# Altium schematic symbol library SMD Passive.SchLib: 216 symbols (part 1 of 4)
Pins are listed as number, name and electrical type; pins without a type are passive.

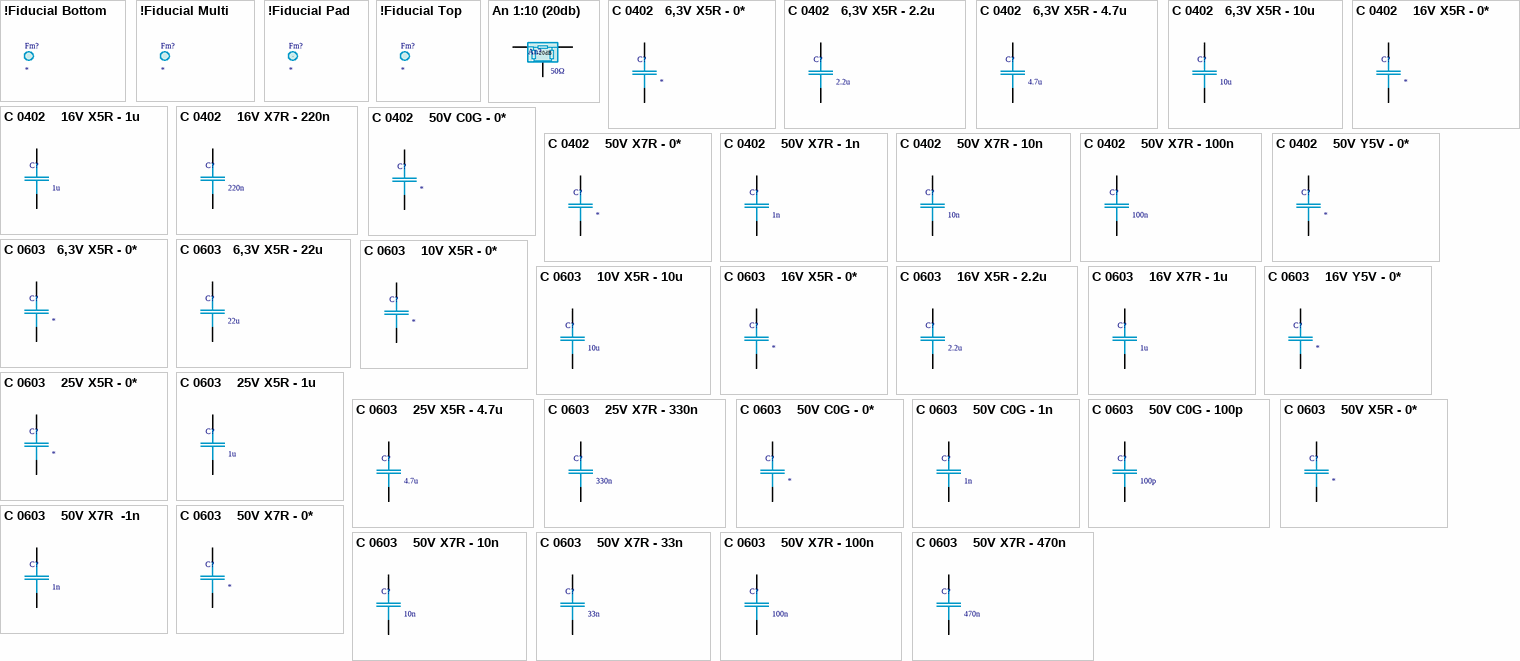
[diagram p0: symbols !Fiducial Bottom to C 0603    50V X7R - 470n]

## !Fiducial Bottom
designator Fm?  (no BOM)
Fiducial Top; Value: Bottom; Package: Fiducial; Published: 07.04.2019; Mount Type: SMT; Publisher: Hefest; Technology: Pcb; TYPE: Fiducial
footprint Fiducial-Bottom

## !Fiducial Multi
designator Fm?  (no BOM)
Fiducial Multi; TYPE: Fiducial; Package: Fiducial; Published: 07.04.2019; Mount Type: SMT; Publisher: Hefest; Technology: Pcb; Value: Multi
footprint Fiducial-Multi

## !Fiducial Pad
designator Fm?  (no BOM)
Fiducial Pad; Value: Top; Package: Fiducial; Published: 07.04.2019; Mount Type: SMT; Publisher: Hefest; Technology: Pcb; TYPE: Fiducial
footprint Fiducial-Top
footprint Fiducial-Bottom
pins: 0

## !Fiducial Top
designator Fm?  (no BOM)
Fiducial Top; Package: Fiducial; Published: 07.04.2019; Mount Type: SMT; Publisher: Hefest; Technology: Pcb; Value: Top; TYPE: Fiducial
footprint Fiducial-Top

## An 1:10 (20db)
designator An?, comment R: 50Ω  (hidden comment: D10AA20Z4)
SMD 10W    -20dB DC-3GHz; VSWR: <1.25:1; Tolerance %: ±0.25dB; Package-mm: 5x2.5mm; FREQ min: DC; FREQ max: 3GHz; Part Number: D10AA20Z4; Mount Type: SMT; Publisher: Hefest; Manufacturer: *; Manufacturer Alternate: *; Published: 07.04.2019; Supplier 1: Mouser; Supplier Part Number 1: 620-D10AA20Z4; RoHS: Y; Technology: Chip; ATTENUATION: -20dB; Package: D10AAxxZ4; ComponentLink1Description: Datasheet Link; ComponentLink1URL: https://cdn.anaren.com/product-documents/WirelessResistive/AttenuatorsSMD/D10AAXXZ4/D10AAXXZ4_DataSheet(Rev_D).pdf; Temperature Range: -55°C ~ +125°C; Price: 10.47; Part Number Alternate: *; TYPE: Attenuator; Value Code: *; Power: 10W; Value: D10AA20Z4
footprint R Att D10AAxxZ4
signal-integrity model Resistor (Model Description)
pins: 1, 2, 3 G
1 alternate drawing of the same symbol

## C 0402   6,3V X5R - 0*
designator C?
SMD 0402    6.3V X5R 10%; Manufacturer: Samsung; TYPE: Capacitors; Package-mm: 1005; Part Number: *; Mount Type: SMT; Publisher: Hefest; Manufacturer Alternate: *; Published: 07.04.2019; Supplier 1: Comet; Supplier Part Number 1: *; RoHS: Y; Technology: Ceramic  MLCC; Package: 0402; VDC: 6.3V; TempCo: X5R; Tolerance %: ±10%; VAC: *; ESR Ohm: *; ComponentLink1Description: Datasheet Link; ComponentLink1URL: https://store.comet.bg/download-file.php?id=11; Temperature Range: -55°C ~ +85°C; Price: *; Part Number Alternate: *; Value: *
footprint C 0402(1005)x0.5
simulation model Capacitor (Model Description)
signal-integrity model Capacitor (Model Description)
pins: 1, 2
1 alternate drawing of the same symbol

## C 0402   6,3V X5R - 2.2u
designator C?, comment 2.2u
SMD 0402    6.3V X5R 20%; Part Number: CL05A225MQ5NNNC; Manufacturer: Samsung; TYPE: Capacitors; Package-mm: 1005; Mount Type: SMT; Publisher: Hefest; Published: 07.04.2019; Supplier 1: Comet; Supplier Part Number 1: C0402 2.2uF 6.3V X5R SAMSUNG; RoHS: Y; Technology: Ceramic  MLCC; Package: 0402; VDC: 6.3V; TempCo: X5R; Tolerance %: ±20%; VAC: *; ComponentLink1Description: Datasheet Link; ComponentLink1URL: https://store.comet.bg/download-file.php?id=11; ComponentLink3Description: Characteristics data; ComponentLink3URL: https://store.comet.bg/download-file.php?id=8557; Temperature Range: -55°C ~ +85°C; Price: 0.038; Part Number Alternate: *; Manufacturer Alternate: *; ESR Ohm: *; Value: 2.2u
footprint C 0402(1005)x0.5
simulation model Capacitor (Model Description)
signal-integrity model Capacitor (Model Description)
pins: 1, 2
1 alternate drawing of the same symbol

## C 0402   6,3V X5R - 4.7u
designator C?, comment 4.7u
SMD 0402    6.3V X5R 10%; Part Number: CL05A475MQ5NNNC; Manufacturer: Samsung; TYPE: Capacitors; Tolerance %: ±20%; Package-mm: 1005; Mount Type: SMT; Publisher: Hefest; Manufacturer Alternate: *; Part Number Alternate: *; Published: 07.04.2019; Supplier 1: Comet; Supplier 2: *; Supplier 3: *; Supplier Part Number 1: C0402 4.7uF 6.3V X5R SAMSUNG; Supplier Part Number 2: *; Supplier Part Number 3: *; RoHS: Y; Technology: Ceramic  MLCC; Value 1: *; Value 2: *; Package: 0402; VDC: 6.3V; TempCo: X5R; VAC: *; ESR Ohm: *; ComponentLink1Description: Datasheet Link; ComponentLink1URL: https://store.comet.bg/download-file.php?id=11; Temperature Range: -55°C ~ +85°C; Price: 0.150; Value: 4.7u
footprint C 0402(1005)x0.5
simulation model Capacitor (Model Description)
signal-integrity model Capacitor (Model Description)
pins: 1, 2
1 alternate drawing of the same symbol

## C 0402   6,3V X5R - 10u
designator C?, comment 10u
SMD 0402    6.3V X5R 20%; Part Number: CL05A106MQ5NUNC; Manufacturer: Samsung; TYPE: Capacitors; Package-mm: 1005; Mount Type: SMT; Publisher: Hefest; Manufacturer Alternate: *; Part Number Alternate: *; Published: 07.04.2019; Supplier 1: Comet; Supplier Part Number 1: C0402 10uF 6.3V X5R SAMSUN; RoHS: Y; Technology: Ceramic  MLCC; Package: 0402; VDC: 6.3V; TempCo: X5R; Tolerance %: ±20%; VAC: *; ESR Ohm: *; ComponentLink1Description: Datasheet Link; ComponentLink1URL: https://store.comet.bg/download-file.php?id=11; Temperature Range: -55°C ~ +85°C; Price: 0.140; Value: 10u
footprint C 0402(1005)x0.5
simulation model Capacitor (Model Description)
signal-integrity model Capacitor (Model Description)
pins: 1, 2
1 alternate drawing of the same symbol

## C 0402    16V X5R - 0*
designator C?
SMD 0402     16V X5R 10%; Manufacturer: Samsung; TYPE: Capacitors; Tolerance %: ±20%; Package-mm: 1005; Part Number: *; Mount Type: SMT; Publisher: Hefest; Manufacturer Alternate: *; Part Number Alternate: *; Published: 07.04.2019; Supplier 1: Comet; Supplier Part Number 1: *; RoHS: Y; Technology: Ceramic  MLCC; Package: 0402; VDC: 16V; TempCo: X5R; VAC: *; ESR Ohm: *; ComponentLink1Description: Datasheet Link; ComponentLink1URL: https://store.comet.bg/download-file.php?id=11; Temperature Range: -55°C ~ +85°C; Price: *; Value: *
footprint C 0402(1005)x0.5
simulation model Capacitor (Model Description)
signal-integrity model Capacitor (Model Description)
pins: 1, 2
1 alternate drawing of the same symbol

## C 0402    16V X5R - 1u
designator C?, comment 1u
SMD 0402     16V X5R 10%; Part Number: CL05A105KO5NNNC; Manufacturer: Samsung; TYPE: Capacitors; Package-mm: 1005; Mount Type: SMT; Publisher: Hefest; Manufacturer Alternate: *; Part Number Alternate: *; Published: 07.04.2019; Supplier 1: Comet; Supplier Part Number 1: C0402 1.0uF 16V X5R SAMSUNG; RoHS: Y; Technology: Ceramic  MLCC; Package: 0402; VDC: 16V; TempCo: X5R; Tolerance %: ±10%; VAC: *; ESR Ohm: *; ComponentLink1Description: Datasheet Link; ComponentLink1URL: https://store.comet.bg/download-file.php?id=11; Temperature Range: -55°C ~ +85°C; Price: 0.038; Value: 1u
footprint C 0402(1005)x0.5
simulation model Capacitor (Model Description)
signal-integrity model Capacitor (Model Description)
pins: 1, 2
1 alternate drawing of the same symbol

## C 0402    16V X7R - 220n
designator C?, comment 220n
SMD 0402     16V X7R 10%; Part Number: CL05B224KO5NNNC; Manufacturer: Samsung; TYPE: Capacitors; Package-mm: 1005; Mount Type: SMT; Publisher: Hefest; Manufacturer Alternate: *; Part Number Alternate: *; Published: 07.04.2019; Supplier 1: Comet; Supplier Part Number 1: C0402 220nF 16V X7R SAMSUNG; RoHS: Y; Technology: Ceramic  MLCC; Package: 0402; VDC: 16V; TempCo: X7R; Tolerance %: ±10%; VAC: *; ESR Ohm: *; ComponentLink1Description: Datasheet Link; ComponentLink1URL: https://store.comet.bg/download-file.php?id=11; Temperature Range: -55°C ~ +125°C; Price: 0.020; Value: 220n
footprint C 0402(1005)x0.5
simulation model Capacitor (Model Description)
signal-integrity model Capacitor (Model Description)
pins: 1, 2
1 alternate drawing of the same symbol

## C 0402    50V C0G - 0*
designator C?
SMD 0402     50V C0G   5%; Manufacturer: Samsung; TYPE: Capacitors; Package-mm: 1005; Part Number: *; Mount Type: SMT; Publisher: Hefest; Manufacturer Alternate: *; Part Number Alternate: *; Published: 07.04.2019; Supplier 1: Comet; Supplier Part Number 1: *; RoHS: Y; Technology: Ceramic  MLCC; Package: 0402; VDC: 50V; TempCo: C0G; Tolerance %: ±5%; VAC: *; ESR Ohm: *; ComponentLink1Description: Datasheet Link; ComponentLink1URL: https://store.comet.bg/download-file.php?id=11; Temperature Range: -55°C ~ +125°C; Price: *; Value: *
footprint C 0402(1005)x0.5
simulation model Capacitor (Model Description)
signal-integrity model Capacitor (Model Description)
pins: 1, 2
1 alternate drawing of the same symbol

## C 0402    50V X7R - 0*
designator C?
SMD 0402     50V X7R 10%; Manufacturer: Samsung; TYPE: Capacitors; Package-mm: 1005; Part Number: *; Mount Type: SMT; Publisher: Hefest; Manufacturer Alternate: *; Part Number Alternate: *; Published: 07.04.2019; Supplier 1: Comet; Supplier Part Number 1: *; RoHS: Y; Technology: Ceramic  MLCC; Package: 0402; VDC: 50V; TempCo: X7R; Tolerance %: ±10%; VAC: *; ESR Ohm: *; ComponentLink1Description: Datasheet Link; ComponentLink1URL: https://store.comet.bg/download-file.php?id=11; Temperature Range: -55°C ~ +125°C; Price: *; Value: *
footprint C 0402(1005)x0.5
simulation model Capacitor (Model Description)
signal-integrity model Capacitor (Model Description)
pins: 1, 2
1 alternate drawing of the same symbol

## C 0402    50V X7R - 1n
designator C?, comment 1n
SMD 0402     50V X7R 10%; Part Number: CL05B102KB5NNNC; Manufacturer: Samsung; TYPE: Capacitors; Package-mm: 1005; Mount Type: SMT; Publisher: Hefest; Manufacturer Alternate: *; Part Number Alternate: *; Published: 07.04.2019; Supplier 1: Comet; Supplier Part Number 1: C0402 1.0nF 50V X7R SAMSUNG; RoHS: Y; Technology: Ceramic  MLCC; Package: 0402; VDC: 50V; TempCo: X7R; Tolerance %: ±10%; VAC: *; ESR Ohm: *; ComponentLink1Description: Datasheet Link; ComponentLink1URL: https://store.comet.bg/download-file.php?id=11; Temperature Range: -55°C ~ +125°C; Price: 0.015; Value: 1n
footprint C 0402(1005)x0.5
simulation model Capacitor (Model Description)
signal-integrity model Capacitor (Model Description)
pins: 1, 2
1 alternate drawing of the same symbol

## C 0402    50V X7R - 10n
designator C?, comment 10n
SMD 0402     50V X7R 10%; Part Number: CL05B103KB5NNNC; Manufacturer: Samsung; TYPE: Capacitors; Package-mm: 1005; Mount Type: SMT; Publisher: Hefest; Manufacturer Alternate: *; Part Number Alternate: *; Published: 07.04.2019; Supplier 1: Comet; Supplier Part Number 1: C0402 10nF 50V X7R SAMSUNG; RoHS: Y; Technology: Ceramic  MLCC; Package: 0402; VDC: 50V; TempCo: X7R; Tolerance %: ±10%; VAC: *; ESR Ohm: *; ComponentLink1Description: Datasheet Link; ComponentLink1URL: https://store.comet.bg/download-file.php?id=11; Temperature Range: -55°C ~ +125°C; Price: 0.037; Value: 10n
footprint C 0402(1005)x0.5
simulation model Capacitor (Model Description)
signal-integrity model Capacitor (Model Description)
pins: 1, 2
1 alternate drawing of the same symbol

## C 0402    50V X7R - 100n
designator C?, comment 100n
SMD 0402     50V X7R 10%; Part Number: CL05B104KB5NNNC; Manufacturer: Samsung; TYPE: Capacitors; Package-mm: 1005; Mount Type: SMT; Publisher: Hefest; Manufacturer Alternate: *; Part Number Alternate: *; Published: 07.04.2019; Supplier 1: Comet; Supplier Part Number 1: C0402 100nF 50V X7R; RoHS: Y; Technology: Ceramic  MLCC; Package: 0402; VDC: 50V; TempCo: X7R; Tolerance %: ±10%; VAC: *; ESR Ohm: *; ComponentLink1Description: Datasheet Link; ComponentLink1URL: https://store.comet.bg/download-file.php?id=11; Temperature Range: -55°C ~ +125°C; Price: 0.039; Value: 100n
footprint C 0402(1005)x0.5
simulation model Capacitor (Model Description)
signal-integrity model Capacitor (Model Description)
pins: 1, 2
1 alternate drawing of the same symbol

## C 0402    50V Y5V - 0*
designator C?
SMD 0402     50V Y5V +82/-22%; Manufacturer: Samsung; TYPE: Capacitors; Package-mm: 1005; Part Number: *; Mount Type: SMT; Publisher: Hefest; Manufacturer Alternate: *; Part Number Alternate: *; Published: 07.04.2019; Supplier 1: Comet; Supplier Part Number 1: *; RoHS: Y; Technology: Ceramic  MLCC; Package: 0402; VDC: 50V; TempCo: Y5V; Tolerance %: +82/-22%; VAC: *; ESR Ohm: *; ComponentLink1Description: Datasheet Link; ComponentLink1URL: https://store.comet.bg/download-file.php?id=11; Temperature Range: -30°C ~ +85°C; Price: *; Value: *
footprint C 0402(1005)x0.5
simulation model Capacitor (Model Description)
signal-integrity model Capacitor (Model Description)
pins: 1, 2
1 alternate drawing of the same symbol

## C 0603   6,3V X5R - 0*
designator C?
SMD 0603    6.3V X5R 10%; Manufacturer: Samsung; TYPE: Capacitors; Tolerance %: ±20%; Package-mm: 1608; Part Number: *; Mount Type: SMT; Publisher: Hefest; Manufacturer Alternate: *; Part Number Alternate: *; Published: 07.04.2019; Supplier 1: Comet; Supplier Part Number 1: *; RoHS: Y; Technology: Ceramic  MLCC; Package: 0603; VDC: 6.3V; TempCo: X5R; VAC: *; ESR Ohm: *; ComponentLink1Description: Datasheet Link; ComponentLink1URL: https://store.comet.bg/download-file.php?id=11; Temperature Range: -55°C ~ +85°C; Price: *; Value: *
footprint C 0603(1608)x0.8
simulation model Capacitor (Model Description)
signal-integrity model Capacitor (Model Description)
pins: 1, 2
1 alternate drawing of the same symbol

## C 0603   6,3V X5R - 22u
designator C?, comment 22u
SMD 0603    6.3V X5R 10%; Part Number: CL10A226MQ8NRNC; Manufacturer: Samsung; TYPE: Capacitors; Tolerance %: ±20%; Package-mm: 1608; Mount Type: SMT; Publisher: Hefest; Manufacturer Alternate: *; Part Number Alternate: *; Published: 07.04.2019; Supplier 1: Comet; Supplier Part Number 1: C0603 22uF 6.3V X5R SAMSUNG; RoHS: Y; Technology: Ceramic  MLCC; Package: 0603; VDC: 6.3V; TempCo: X5R; VAC: *; ESR Ohm: *; ComponentLink1Description: Datasheet Link; ComponentLink1URL: https://store.comet.bg/download-file.php?id=11; Temperature Range: -55°C ~ +85°C; Price: 0.220; Value: 22u
footprint C 0603(1608)x0.8
simulation model Capacitor (Model Description)
signal-integrity model Capacitor (Model Description)
pins: 1, 2
1 alternate drawing of the same symbol

## C 0603    10V X5R - 0*
designator C?
SMD 0603     10V X5R 10%; Manufacturer: Samsung; TYPE: Capacitors; Tolerance %: ±20%; Package-mm: 1608; Part Number: *; Mount Type: SMT; Publisher: Hefest; Manufacturer Alternate: *; Part Number Alternate: *; Published: 07.04.2019; Supplier 1: Comet; Supplier Part Number 1: *; RoHS: Y; Technology: Ceramic  MLCC; Package: 0603; VDC: 10V; TempCo: X5R; VAC: *; ESR Ohm: *; ComponentLink1Description: Datasheet Link; ComponentLink1URL: https://store.comet.bg/download-file.php?id=11; Temperature Range: -55°C ~ +85°C; Price: *; Value: *
footprint C 0603(1608)x0.8
simulation model Capacitor (Model Description)
signal-integrity model Capacitor (Model Description)
pins: 1, 2
1 alternate drawing of the same symbol

## C 0603    10V X5R - 10u
designator C?, comment 10u
SMD 0603     10V X5R  20%; Part Number: C0603 10uF 10V X5R SAMSUNG; Manufacturer: Samsung; TYPE: Capacitors; Package-mm: 1608; Mount Type: SMT; Publisher: Hefest; Manufacturer Alternate: *; Part Number Alternate: *; Published: 07.04.2019; Supplier 1: Comet; Supplier Part Number 1: C0603 10uF 10V X5R SAMSUNG; RoHS: Y; Technology: Ceramic  MLCC; Package: 0603; VDC: 10V; TempCo: X5R; Tolerance %: ±20%; VAC: *; ESR Ohm: *; ComponentLink1Description: Datasheet Link; ComponentLink1URL: https://store.comet.bg/download-file.php?id=11; Temperature Range: -55°C ~ +85°C; Price: 0.250; Value: 10u
footprint C 0603(1608)x0.8
simulation model Capacitor (Model Description)
signal-integrity model Capacitor (Model Description)
pins: 1, 2
1 alternate drawing of the same symbol

## C 0603    16V X5R - 0*
designator C?
SMD 0603     16V X5R  10%; Manufacturer: Samsung; TYPE: Capacitors; Tolerance %: ±20%; Package-mm: 1608; Part Number: *; Mount Type: SMT; Publisher: Hefest; Manufacturer Alternate: *; Part Number Alternate: *; Published: 07.04.2019; Supplier 1: Comet; Supplier Part Number 1: *; RoHS: Y; Technology: Ceramic  MLCC; Package: 0603; VDC: 16V; TempCo: X5R; VAC: *; ESR Ohm: *; ComponentLink1Description: Datasheet Link; ComponentLink1URL: https://store.comet.bg/download-file.php?id=11; Temperature Range: -55°C ~ +85°C; Price: *; Value: *
footprint C 0603(1608)x0.8
simulation model Capacitor (Model Description)
signal-integrity model Capacitor (Model Description)
pins: 1, 2
1 alternate drawing of the same symbol

## C 0603    16V X5R - 2.2u
designator C?, comment 2.2u
SMD 0603     16V X5R 10%; Part Number: CL10A225KO8NNNC; Manufacturer: Samsung; Package-mm: 1608; TYPE: Capacitors; Mount Type: SMT; Publisher: Hefest; Manufacturer Alternate: *; Part Number Alternate: *; Published: 07.04.2019; Supplier 1: Comet; Supplier Part Number 1: C0603 2.2uF 16V X5R SAMSUNG; RoHS: Y; Technology: Ceramic  MLCC; Package: 0603; VDC: 16V; TempCo: X5R; Tolerance %: ±10%; VAC: *; ESR Ohm: *; ComponentLink1Description: Datasheet Link; ComponentLink1URL: https://store.comet.bg/download-file.php?id=11; Temperature Range: -55°C ~ +85°C; Price: 0.034; Value: 2.2u
footprint C 0603(1608)x0.8
simulation model Capacitor (Model Description)
signal-integrity model Capacitor (Model Description)
pins: 1, 2
1 alternate drawing of the same symbol

## C 0603    16V X7R - 1u
designator C?, comment 1u
SMD 0603     16V X5R 10%; Manufacturer: Samsung; TYPE: Capacitors; TempCo: X7R; Package-mm: 1608; Part Number: *; Mount Type: SMT; Publisher: Hefest; Manufacturer Alternate: *; Part Number Alternate: *; Published: 07.04.2019; Supplier 1: Comet; Supplier Part Number 1: C0603 1.0uF 16V X7R SAMSUNG; RoHS: Y; Technology: Ceramic  MLCC; Package: 0603; VDC: 16V; VAC: *; ESR Ohm: *; ComponentLink1Description: Datasheet Link; ComponentLink1URL: https://store.comet.bg/download-file.php?id=11; Temperature Range: -55°C ~ +125°C; Price: 0.056; Tolerance %: ±10%; Value: 1u
footprint C 0603(1608)x0.8
simulation model Capacitor (Model Description)
signal-integrity model Capacitor (Model Description)
pins: 1, 2
1 alternate drawing of the same symbol

## C 0603    16V Y5V - 0*
designator C?
SMD 0603     16V Y5V -82/+22%; Manufacturer: Samsung; TYPE: Capacitors; Package-mm: 1608; Part Number: *; Mount Type: SMT; Publisher: Hefest; Manufacturer Alternate: *; Part Number Alternate: *; Published: 07.04.2019; Supplier 1: Comet; Supplier Part Number 1: *; RoHS: Y; Technology: Ceramic  MLCC; Package: 0603; VDC: 16V; TempCo: Y5V; Tolerance %: -82/+22%; VAC: *; ESR Ohm: *; ComponentLink1Description: Datasheet Link; ComponentLink1URL: https://store.comet.bg/download-file.php?id=11; Temperature Range: -30°C ~ +85°C; Price: *; Value: *
footprint C 0603(1608)x0.8
simulation model Capacitor (Model Description)
signal-integrity model Capacitor (Model Description)
pins: 1, 2
1 alternate drawing of the same symbol

## C 0603    25V X5R - 0*
designator C?
SMD 0603     25V X5R 10%; Manufacturer: Samsung; TYPE: Capacitors; Tolerance %: ±20%; Package-mm: 1608; Price: *; Mount Type: SMT; Publisher: Hefest; Manufacturer Alternate: *; Part Number Alternate: *; Supplier 1: Comet; Supplier Part Number 1: *; RoHS: Y; Technology: Ceramic  MLCC; Package: 0603; VDC: 25V; TempCo: X5R; VAC: *; ESR Ohm: *; ComponentLink1Description: Datasheet Link; ComponentLink1URL: https://store.comet.bg/download-file.php?id=11; Temperature Range: -55°C ~ +85°C; Published: 07.04.2019; PartNumber: *; Value: *
footprint C 0603(1608)x0.8
simulation model Capacitor (Model Description)
signal-integrity model Capacitor (Model Description)
pins: 1, 2
1 alternate drawing of the same symbol

## C 0603    25V X5R - 1u
designator C?, comment 1u
SMD 0603     25V X5R 10%; Part Number: CL10A105KA8NNNC; Manufacturer: Samsung; TYPE: Capacitors; Package-mm: 1608; Mount Type: SMT; Publisher: Hefest; Manufacturer Alternate: *; Part Number Alternate: *; Published: 07.04.2019; Supplier 1: Comet; Supplier Part Number 1: C0603 1.0uF 25V X7R SAMSUNG; RoHS: Y; Technology: Ceramic  MLCC; Package: 0603; VDC: 25V; TempCo: X5R; Tolerance %: ±10%; VAC: *; ESR Ohm: *; ComponentLink1Description: Datasheet Link; ComponentLink1URL: https://store.comet.bg/download-file.php?id=11; Temperature Range: -55°C ~ +85°C; Price: 0.030; Value: 1u
footprint C 0603(1608)x0.8
simulation model Capacitor (Model Description)
signal-integrity model Capacitor (Model Description)
pins: 1, 2
1 alternate drawing of the same symbol

## C 0603    25V X5R - 4.7u
designator C?, comment 4.7u
SMD 0603     25V X5R 10%; Part Number: CL10A475KA8NQNC; Manufacturer: Samsung; TYPE: Capacitors; Tolerance %: ±20%; Package-mm: 1608; Mount Type: SMT; Publisher: Hefest; Manufacturer Alternate: *; Part Number Alternate: *; Published: 07.04.2019; Supplier 1: Comet; Supplier Part Number 1: C0603 4.7uF 25V X5R SAMSUNG; RoHS: Y; Technology: Ceramic  MLCC; Package: 0603; VDC: 25V; TempCo: X5R; VAC: *; ESR Ohm: *; ComponentLink1Description: Datasheet Link; ComponentLink1URL: https://store.comet.bg/download-file.php?id=11; Temperature Range: -55°C ~ +85°C; Price: 0.450; Value: 4.7u
footprint C 0603(1608)x0.8
simulation model Capacitor (Model Description)
signal-integrity model Capacitor (Model Description)
pins: 1, 2
1 alternate drawing of the same symbol

## C 0603    25V X7R - 330n
designator C?, comment 330n
SMD 0603     25V X7R 10%; Part Number: CL10B334KA84PNC; Manufacturer: Samsung; TYPE: Capacitors; Package-mm: 1608; Mount Type: SMT; Publisher: Hefest; Manufacturer Alternate: *; Part Number Alternate: *; Published: 07.04.2019; Supplier 1: Comet; Supplier Part Number 1: C0603 330nF 25V X7R SAMSUNG; RoHS: Y; Technology: Ceramic  MLCC; Package: 0603; VDC: 25V; TempCo: X7R; Tolerance %: ±10%; VAC: *; ESR Ohm: *; ComponentLink1Description: Datasheet Link; ComponentLink1URL: https://store.comet.bg/download-file.php?id=11; Temperature Range: -55°C ~ +125°C; Price: 0.67; Value: 330n
footprint C 0603(1608)x0.8
simulation model Capacitor (Model Description)
signal-integrity model Capacitor (Model Description)
pins: 1, 2
1 alternate drawing of the same symbol

## C 0603    50V C0G - 0*
designator C?
SMD 0603     50V C0G  5%; Manufacturer: Samsung; TYPE: Capacitors; Package-mm: 1608; Part Number: *; Mount Type: SMT; Publisher: Hefest; Manufacturer Alternate: *; Part Number Alternate: *; Published: 07.04.2019; Supplier 1: Comet; Supplier Part Number 1: *; RoHS: Y; Technology: Ceramic  MLCC; Package: 0603; VDC: 50V; TempCo: C0G; Tolerance %: ±5%; VAC: *; ESR Ohm: *; ComponentLink1Description: Datasheet Link; ComponentLink1URL: https://store.comet.bg/download-file.php?id=11; Temperature Range: -55°C ~ +125°C; Price: *; Value: *
footprint C 0603(1608)x0.8
simulation model Capacitor (Model Description)
signal-integrity model Capacitor (Model Description)
pins: 1, 2
1 alternate drawing of the same symbol

## C 0603    50V C0G - 1n
designator C?, comment 1n
SMD 0603     50V C0G  5%; Part Number: CL10C102JB8NNNC; Manufacturer: Samsung; TYPE: Capacitors; Package-mm: 1608; Mount Type: SMT; Publisher: Hefest; Manufacturer Alternate: *; Part Number Alternate: *; Published: 07.04.2019; Supplier 1: Comet; Supplier Part Number 1: C0603 1.0nF 50V C0G SAMSUNG; RoHS: Y; Technology: Ceramic  MLCC; Package: 0603; VDC: 50V; TempCo: C0G; Tolerance %: ±5%; VAC: *; ESR Ohm: *; ComponentLink1Description: Datasheet Link; ComponentLink1URL: https://store.comet.bg/download-file.php?id=11; Temperature Range: -55°C ~ +125°C; Price: 0.038; Value: 1n
footprint C 0603(1608)x0.8
simulation model Capacitor (Model Description)
signal-integrity model Capacitor (Model Description)
pins: 1, 2
1 alternate drawing of the same symbol

## C 0603    50V C0G - 100p
designator C?, comment 100p
SMD 0603     50V C0G  5%; Part Number: CL10C101JBNC; Manufacturer: Samsung; TYPE: Capacitors; Package-mm: 1608; Mount Type: SMT; Publisher: Hefest; Manufacturer Alternate: *; Part Number Alternate: *; Published: 07.04.2019; Supplier 1: Comet; Supplier Part Number 1: C0603 100pF 50V C0G SAMSUNG; RoHS: Y; Technology: Ceramic  MLCC; Package: 0603; VDC: 50V; TempCo: C0G; Tolerance %: ±5%; VAC: *; ESR Ohm: *; ComponentLink1Description: Datasheet Link; ComponentLink1URL: https://store.comet.bg/download-file.php?id=11; Temperature Range: -55°C ~ +125°C; Price: 0.029; Value: 100p
footprint C 0603(1608)x0.8
simulation model Capacitor (Model Description)
signal-integrity model Capacitor (Model Description)
pins: 1, 2
1 alternate drawing of the same symbol

## C 0603    50V X5R - 0*
designator C?
SMD 0603     50V X5R 10%; Manufacturer: Samsung; TYPE: Capacitors; Tolerance %: ±20%; Package-mm: 1608; Part Number: *; Mount Type: SMT; Publisher: Hefest; Manufacturer Alternate: *; Part Number Alternate: *; Published: 07.04.2019; Supplier 1: Comet; Supplier Part Number 1: *; RoHS: Y; Technology: Ceramic  MLCC; Package: 0603; VDC: 50V; TempCo: X5R; VAC: *; ESR Ohm: *; ComponentLink1Description: Datasheet Link; ComponentLink1URL: https://store.comet.bg/download-file.php?id=11; Temperature Range: -55°C ~ +85°C; Price: *; Value: *
footprint C 0603(1608)x0.8
simulation model Capacitor (Model Description)
signal-integrity model Capacitor (Model Description)
pins: 1, 2
1 alternate drawing of the same symbol

## C 0603    50V X7R  -1n
designator C?, comment 1n
SMD 0603     50V X7R 10%; Part Number: CL10B102KB8NNNC; Manufacturer: Samsung; TYPE: Capacitors; Package-mm: 1608; Mount Type: SMT; Publisher: Hefest; Manufacturer Alternate: *; Part Number Alternate: *; Published: 07.04.2019; Supplier 1: Comet; Supplier Part Number 1: C0603 1.0nF 50V X7R SAMSUNG; RoHS: Y; Technology: Ceramic  MLCC; Package: 0603; VDC: 50V; TempCo: X7R; Tolerance %: ±10%; VAC: *; ESR Ohm: *; ComponentLink1Description: Datasheet Link; ComponentLink1URL: https://store.comet.bg/download-file.php?id=11; Temperature Range: -55°C ~ +125°C; Price: 0.038; Value: 1n
footprint C 0603(1608)x0.8
simulation model Capacitor (Model Description)
signal-integrity model Capacitor (Model Description)
pins: 1, 2
1 alternate drawing of the same symbol

## C 0603    50V X7R - 0*
designator C?
SMD 0603     50V X7R 10%; Manufacturer: Samsung; TYPE: Capacitors; Package-mm: 1608; Part Number: *; Mount Type: SMT; Publisher: Hefest; Manufacturer Alternate: *; Part Number Alternate: *; Published: 07.04.2019; Supplier 1: Comet; Supplier Part Number 1: *; RoHS: Y; Technology: Ceramic  MLCC; Package: 0603; VDC: 50V; TempCo: X7R; Tolerance %: ±10%; VAC: *; ESR Ohm: *; ComponentLink1Description: Datasheet Link; ComponentLink1URL: https://store.comet.bg/download-file.php?id=11; Temperature Range: -55°C ~ +125°C; Price: *; Value: *
footprint C 0603(1608)x0.8
simulation model Capacitor (Model Description)
signal-integrity model Capacitor (Model Description)
pins: 1, 2
1 alternate drawing of the same symbol

## C 0603    50V X7R - 10n
designator C?, comment 10n
SMD 0603     50V X7R 10%; Part Number: CL10B103KB8NNNC; Manufacturer: Samsung; TYPE: Capacitors; Package-mm: 1608; Mount Type: SMT; Publisher: Hefest; Manufacturer Alternate: *; Part Number Alternate: *; Published: 07.04.2019; Supplier 1: Comet; Supplier Part Number 1: C0603 10nF 50V X7R SAMSUNG; RoHS: Y; Technology: Ceramic  MLCC; Package: 0603; VDC: 50V; TempCo: X7R; Tolerance %: ±10%; VAC: *; ESR Ohm: *; ComponentLink1Description: Datasheet Link; ComponentLink1URL: https://store.comet.bg/download-file.php?id=11; Temperature Range: -55°C ~ +125°C; Price: 0.028; Value: 10n
footprint C 0603(1608)x0.8
simulation model Capacitor (Model Description)
signal-integrity model Capacitor (Model Description)
pins: 1, 2
1 alternate drawing of the same symbol

## C 0603    50V X7R - 33n
designator C?, comment 33n
SMD 0603     50V X7R 10%; Part Number: CL10B333KB8NNNC; Manufacturer: Samsung; TYPE: Capacitors; Package-mm: 1608; Mount Type: SMT; Publisher: Hefest; Manufacturer Alternate: *; Part Number Alternate: *; Published: 07.04.2019; Supplier 1: Comet; Supplier Part Number 1: C0603 33nF 50V X7R SAMSUNG; RoHS: Y; Technology: Ceramic  MLCC; Package: 0603; VDC: 50V; TempCo: X7R; Tolerance %: ±10%; VAC: *; ESR Ohm: *; ComponentLink1Description: Datasheet Link; ComponentLink1URL: https://store.comet.bg/download-file.php?id=11; Temperature Range: -55°C ~ +125°C; Price: *; Value: 33n
footprint C 0603(1608)x0.8
simulation model Capacitor (Model Description)
signal-integrity model Capacitor (Model Description)
pins: 1, 2
1 alternate drawing of the same symbol

## C 0603    50V X7R - 100n
designator C?, comment 100n
SMD 0603     50V X7R   5%; Part Number: CL10B104JB8NNNC; Manufacturer: Samsung; TYPE: Capacitors; Package-mm: 1608; Mount Type: SMT; Publisher: Hefest; Manufacturer Alternate: *; Part Number Alternate: *; Published: 07.04.2019; Supplier 1: Comet; Supplier Part Number 1: C0603 100nF 50V X7R 5% SAMSUNG; RoHS: Y; Technology: Ceramic  MLCC; Package: 0603; VDC: 50V; TempCo: X7R; Tolerance %: ±5%; VAC: *; ESR Ohm: *; ComponentLink1Description: Datasheet Link; ComponentLink1URL: https://store.comet.bg/download-file.php?id=11; Temperature Range: -55°C ~ +125°C; Price: 0.020; Value: 100n
footprint C 0603(1608)x0.8
simulation model Capacitor (Model Description)
signal-integrity model Capacitor (Model Description)
pins: 1, 2
1 alternate drawing of the same symbol

## C 0603    50V X7R - 470n
designator C?, comment 470n
SMD 0603     50V X7R 10%; Manufacturer: Samsung; TYPE: Capacitors; Package-mm: 1608; Part Number: *; Mount Type: SMT; Publisher: Hefest; Manufacturer Alternate: *; Part Number Alternate: *; Published: 07.04.2019; Supplier 1: Comet; Supplier Part Number 1: C0603 470nF 25V X7R; RoHS: Y; Technology: Ceramic  MLCC; Package: 0603; VDC: 50V; TempCo: X7R; Tolerance %: ±10%; VAC: *; ESR Ohm: *; ComponentLink1Description: Datasheet Link; ComponentLink1URL: https://store.comet.bg/download-file.php?id=11; Temperature Range: -55°C ~ +125°C; Price: 0.060; Value: 470n
footprint C 0603(1608)x0.8
simulation model Capacitor (Model Description)
signal-integrity model Capacitor (Model Description)
pins: 1, 2
1 alternate drawing of the same symbol

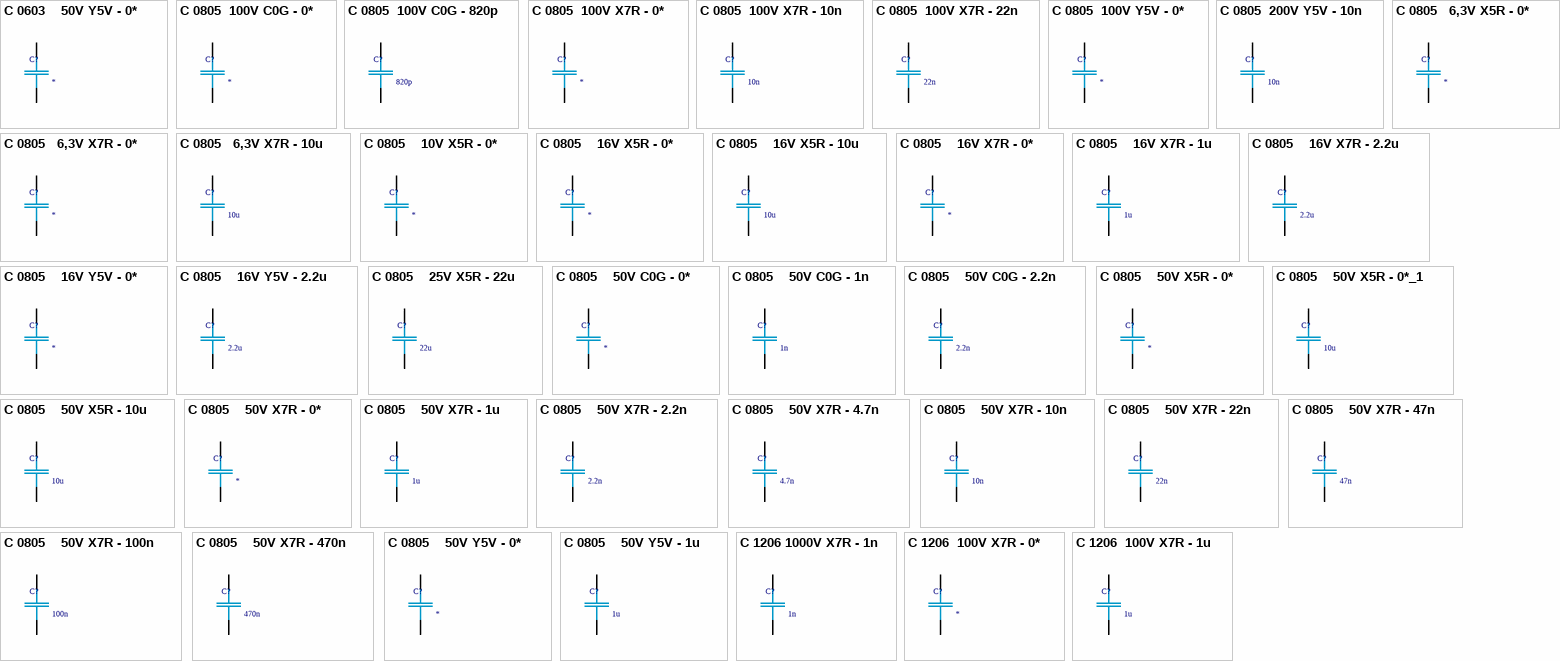
[diagram p1: symbols C 0603    50V Y5V - 0* to C 1206  100V X7R - 1u]

## C 0603    50V Y5V - 0*
designator C?
SMD 0603     50V Y5V -82/+22%; Manufacturer: Samsung; TYPE: Capacitors; Part Number: *; Mount Type: SMT; Publisher: Hefest; Manufacturer Alternate: *; Part Number Alternate: *; Published: 07.04.2019; Supplier 1: Comet; Supplier Part Number 1: *; RoHS: Y; Technology: Ceramic  MLCC; Package: 0603; VDC: 50V; TempCo: Y5V; Tolerance %: -82/+22%; VAC: *; ESR Ohm: *; ComponentLink1Description: Datasheet Link; ComponentLink1URL: https://store.comet.bg/download-file.php?id=11; Temperature Range: -30°C ~ +85°C; Price: *; Package-mm: *; Value: *
footprint C 0603(1608)x0.8
simulation model Capacitor (Model Description)
signal-integrity model Capacitor (Model Description)
pins: 1, 2
1 alternate drawing of the same symbol

## C 0805  100V C0G - 0*
designator C?
SMD 0805   100V C0G 10%; Manufacturer: Samsung; TYPE: Capacitors; Tolerance %: ±5%; Package-mm: 2012; Part Number: *; Mount Type: SMT; Publisher: Hefest; Manufacturer Alternate: *; Part Number Alternate: *; Published: 07.04.2019; Supplier 1: Comet; Supplier Part Number 1: *; RoHS: Y; Technology: Ceramic  MLCC; Package: 0805; VDC: 100V; TempCo: C0G; VAC: *; ESR Ohm: *; ComponentLink1Description: Datasheet Link; ComponentLink1URL: https://store.comet.bg/download-file.php?id=11; Temperature Range: -55°C ~ +125°C; Price: *; Value: *
footprint C 0805(2012)x0.65
simulation model Capacitor (Model Description)
signal-integrity model Capacitor (Model Description)
pins: 1, 2
1 alternate drawing of the same symbol

## C 0805  100V C0G - 820p
designator C?, comment 820p
SMD 0805   100V C0G 10%; Part Number: VJ0805A821JXBAC; Manufacturer: VISHAY; TYPE: Capacitors; Tolerance %: ±5%; Package-mm: 2012; Mount Type: SMT; Publisher: Hefest; Manufacturer Alternate: *; Part Number Alternate: *; Published: 07.04.2019; Supplier 1: Comet; Supplier Part Number 1: C0805 820pF 100V C0G VHY; RoHS: Y; Technology: Ceramic  MLCC; Package: 0805; VDC: 100V; TempCo: C0G; VAC: *; ESR Ohm: *; ComponentLink1Description: Datasheet Link; ComponentLink1URL: https://store.comet.bg/download-file.php?id=11; Temperature Range: -55°C ~ +155°C; Price: 0.11; Value: 820p
footprint C 0805(2012)x0.65
simulation model Capacitor (Model Description)
signal-integrity model Capacitor (Model Description)
pins: 1, 2
1 alternate drawing of the same symbol

## C 0805  100V X7R - 0*
designator C?
SMD 0805   100V X7R 10%; Manufacturer: Samsung; TYPE: Capacitors; Package-mm: 2012; Part Number: *; Mount Type: SMT; Publisher: Hefest; Manufacturer Alternate: *; Part Number Alternate: *; Published: 07.04.2019; Supplier 1: Comet; Supplier Part Number 1: *; RoHS: Y; Technology: Ceramic  MLCC; Package: 0805; VDC: 100V; TempCo: X7R; Tolerance %: ±10%; VAC: *; ESR Ohm: *; ComponentLink1Description: Datasheet Link; ComponentLink1URL: https://store.comet.bg/download-file.php?id=11; Temperature Range: -55°C ~ +125°C; Price: *; Value: *
footprint C 0805(2012)x0.65
simulation model Capacitor (Model Description)
signal-integrity model Capacitor (Model Description)
pins: 1, 2
1 alternate drawing of the same symbol

## C 0805  100V X7R - 10n
designator C?, comment 10n
SMD 0805   100V X7R 10%; Part Number: CL21B103KCNC; Manufacturer: Samsung; TYPE: Capacitors; Package-mm: 2012; Mount Type: SMT; Publisher: Hefest; Manufacturer Alternate: *; Part Number Alternate: *; Published: 07.04.2019; Supplier 1: Comet; Supplier Part Number 1: C0805 10nF 100V X7R SAMSUNG; RoHS: Y; Technology: Ceramic  MLCC; Package: 0805; VDC: 100V; TempCo: X7R; Tolerance %: ±10%; VAC: *; ESR Ohm: *; ComponentLink1Description: Datasheet Link; ComponentLink1URL: https://store.comet.bg/download-file.php?id=11; Temperature Range: -55°C ~ +125°C; Price: 0.031; Value: 10n
footprint C 0805(2012)x0.65
simulation model Capacitor (Model Description)
signal-integrity model Capacitor (Model Description)
pins: 1, 2
1 alternate drawing of the same symbol

## C 0805  100V X7R - 22n
designator C?, comment 22n
SMD 0805   100V X7R 10%; Part Number: CL21B223KCFNNNE; Manufacturer: Samsung; TYPE: Capacitors; Package-mm: 2012; Mount Type: SMT; Publisher: Hefest; Manufacturer Alternate: *; Part Number Alternate: *; Published: 07.04.2019; Supplier 1: Comet; Supplier Part Number 1: C0805 22nF 100V X7R SAMSUNG; RoHS: Y; Technology: Ceramic  MLCC; Package: 0805; VDC: 100V; TempCo: X7R; Tolerance %: ±10%; VAC: *; ESR Ohm: *; ComponentLink1Description: Datasheet Link; ComponentLink1URL: https://store.comet.bg/download-file.php?id=11; Temperature Range: -55°C ~ +125°C; Price: 0.046; Value: 22n
footprint C 0805(2012)x0.65
simulation model Capacitor (Model Description)
signal-integrity model Capacitor (Model Description)
pins: 1, 2
1 alternate drawing of the same symbol

## C 0805  100V Y5V - 0*
designator C?
SMD 0805   100V Y5V -82/+22%; Manufacturer: Samsung; TYPE: Capacitors; Package-mm: 2012; Part Number: *; Mount Type: SMT; Publisher: Hefest; Manufacturer Alternate: *; Part Number Alternate: *; Published: 07.04.2019; Supplier 1: Comet; Supplier Part Number 1: *; RoHS: Y; Technology: Ceramic  MLCC; Package: 0805; VDC: 100V; TempCo: Y5V; Tolerance %: -82/+22%; VAC: *; ESR Ohm: *; ComponentLink1Description: Datasheet Link; ComponentLink1URL: https://store.comet.bg/download-file.php?id=11; Temperature Range: -30°C ~ +85°C; Price: *; Value: *
footprint C 0805(2012)x0.65
simulation model Capacitor (Model Description)
signal-integrity model Capacitor (Model Description)
pins: 1, 2
1 alternate drawing of the same symbol

## C 0805  200V Y5V - 10n
designator C?, comment 10n
SMD 0805   200V Y5V -82/+22%; Part Number: CL21B103KDCNNNC; Manufacturer: Samsung; TYPE: Capacitors; Package-mm: 2012; Mount Type: SMT; Publisher: Hefest; Manufacturer Alternate: *; Part Number Alternate: *; Published: 07.04.2019; Supplier 1: Comet; Supplier Part Number 1: C0805 10nF 200V X7R SAMSUNG; RoHS: Y; Technology: Ceramic  MLCC; Package: 0805; VDC: 200V; TempCo: Y5V; Tolerance %: -82/+22%; VAC: *; ESR Ohm: *; ComponentLink1Description: Datasheet Link; ComponentLink1URL: https://store.comet.bg/download-file.php?id=11; Temperature Range: -30°C ~ +85°C; Price: 0.048; Value: 10n
footprint C 0805(2012)x0.85
simulation model Capacitor (Model Description)
signal-integrity model Capacitor (Model Description)
pins: 1, 2
1 alternate drawing of the same symbol

## C 0805   6,3V X5R - 0*
designator C?
SMD 0603    6.3V X5R 10%; Manufacturer: Samsung; TYPE: Capacitors; Tolerance %: ±20%; Package-mm: 2012; Part Number: *; Mount Type: SMT; Publisher: Hefest; Manufacturer Alternate: *; Part Number Alternate: *; Published: 07.04.2019; Supplier 1: Comet; Supplier Part Number 1: *; RoHS: Y; Technology: Ceramic  MLCC; Package: 0805; VDC: 6.3V; TempCo: X5R; VAC: *; ESR Ohm: *; ComponentLink1Description: Datasheet Link; ComponentLink1URL: https://store.comet.bg/download-file.php?id=11; Temperature Range: -55°C ~ +85°C; Price: *; Value: *
footprint C 0805(2012)x0.65
simulation model Capacitor (Model Description)
signal-integrity model Capacitor (Model Description)
pins: 1, 2
1 alternate drawing of the same symbol

## C 0805   6,3V X7R - 0*
designator C?
SMD 0603    6,3V X7R 10%; Manufacturer: Samsung; TYPE: Capacitors; VDC: 6.3V; Package-mm: 2012; Part Number: *; Mount Type: SMT; Publisher: Hefest; Manufacturer Alternate: *; Part Number Alternate: *; Published: 07.04.2019; Supplier 1: Comet; Supplier Part Number 1: *; RoHS: Y; Technology: Ceramic  MLCC; Package: 0805; TempCo: X7R; Tolerance %: ±10%; VAC: *; ESR Ohm: *; ComponentLink1Description: Datasheet Link; ComponentLink1URL: https://store.comet.bg/download-file.php?id=11; Temperature Range: -55°C ~ +125°C; Price: *; Value: *
footprint C 0805(2012)x0.65
simulation model Capacitor (Model Description)
signal-integrity model Capacitor (Model Description)
pins: 1, 2
1 alternate drawing of the same symbol

## C 0805   6,3V X7R - 10u
designator C?, comment 10u
SMD 0603    6,3V X7R 10%; Manufacturer: Samsung; TYPE: Capacitors; VDC: 6.3V; Package-mm: 2012; Part Number: *; Mount Type: SMT; Publisher: Hefest; Manufacturer Alternate: *; Part Number Alternate: *; Published: 07.04.2019; Supplier 1: Comet; Supplier Part Number 1: C0805 10uF 6.3V X7R SAMSUNG; RoHS: Y; Technology: Ceramic  MLCC; Package: 0805; TempCo: X7R; Tolerance %: ±10%; VAC: *; ESR Ohm: *; ComponentLink1Description: Datasheet Link; ComponentLink1URL: https://store.comet.bg/download-file.php?id=11; Temperature Range: -55°C ~ +125°C; Price: 0.210; Value: 10u
footprint C 0805(2012)x1.25
simulation model Capacitor (Model Description)
signal-integrity model Capacitor (Model Description)
pins: 1, 2
1 alternate drawing of the same symbol

## C 0805    10V X5R - 0*
designator C?
SMD 0805     10V X5R 10%; Manufacturer: Samsung; TYPE: Capacitors; Tolerance %: ±20%; Package-mm: 2012; Part Number: *; Mount Type: SMT; Publisher: Hefest; Manufacturer Alternate: *; Part Number Alternate: *; Published: 07.04.2019; Supplier 1: Comet; Supplier Part Number 1: *; RoHS: Y; Technology: Ceramic  MLCC; Package: 0805; VDC: 10V; TempCo: X5R; VAC: *; ESR Ohm: *; ComponentLink1Description: Datasheet Link; ComponentLink1URL: https://store.comet.bg/download-file.php?id=11; Temperature Range: -55°C ~ +85°C; Price: *; Value: *
footprint C 0805(2012)x0.65
simulation model Capacitor (Model Description)
signal-integrity model Capacitor (Model Description)
pins: 1, 2
1 alternate drawing of the same symbol

## C 0805    16V X5R - 0*
designator C?
SMD 0805     16V X5R 10%; Manufacturer: Samsung; Tolerance %: ±20%; TYPE: Capacitors; Package-mm: 2012; Part Number: *; Mount Type: SMT; Publisher: Hefest; Manufacturer Alternate: *; Part Number Alternate: *; Published: 07.04.2019; Supplier 1: Comet; Supplier Part Number 1: *; RoHS: Y; Technology: Ceramic  MLCC; Package: 0805; VDC: 16V; TempCo: X5R; VAC: *; ESR Ohm: *; ComponentLink1Description: Datasheet Link; ComponentLink1URL: https://store.comet.bg/download-file.php?id=11; Temperature Range: -55°C ~ +85°C; Price: *; Value: *
footprint C 0805(2012)x0.65
simulation model Capacitor (Model Description)
signal-integrity model Capacitor (Model Description)
pins: 1, 2
1 alternate drawing of the same symbol

## C 0805    16V X5R - 10u
designator C?, comment 10u
SMD 0805     16V X5R 10%; Part Number: CL21A106KAYNNNE; Manufacturer: Samsung; VDC: 25V; TYPE: Capacitors; Package-mm: 2012; Mount Type: SMT; Publisher: Hefest; Manufacturer Alternate: *; Part Number Alternate: *; Published: 07.04.2019; Supplier 1: Comet; Supplier Part Number 1: C0805 10uF 25V X5R SAMSUNG; RoHS: Y; Technology: Ceramic  MLCC; Package: 0805; TempCo: X5R; Tolerance %: ±10%; VAC: *; ESR Ohm: *; ComponentLink1Description: Datasheet Link; ComponentLink1URL: https://store.comet.bg/download-file.php?id=11; Temperature Range: -55°C ~ +85°C; Price: *; Value: 10u
footprint C 0805(2012)x0.65
simulation model Capacitor (Model Description)
signal-integrity model Capacitor (Model Description)
pins: 1, 2
1 alternate drawing of the same symbol

## C 0805    16V X7R - 0*
designator C?
SMD 0805     16V X7R 10%; Manufacturer: Samsung; TYPE: Capacitors; Package-mm: 2012; Part Number: *; Mount Type: SMT; Publisher: Hefest; Manufacturer Alternate: *; Part Number Alternate: *; Published: 07.04.2019; Supplier 1: Comet; Supplier Part Number 1: *; RoHS: Y; Technology: Ceramic  MLCC; Package: 0805; VDC: 16V; TempCo: X7R; Tolerance %: ±10%; VAC: *; ESR Ohm: *; ComponentLink1Description: Datasheet Link; ComponentLink1URL: https://store.comet.bg/download-file.php?id=11; Temperature Range: -55°C ~ +125°C; Price: *; Value: *
footprint C 0805(2012)x0.65
simulation model Capacitor (Model Description)
signal-integrity model Capacitor (Model Description)
pins: 1, 2
1 alternate drawing of the same symbol

## C 0805    16V X7R - 1u
designator C?, comment 1u
SMD 0805     16V X7R 10%; Part Number: CL21B105KBFNNNF; Manufacturer: Samsung; TYPE: Capacitors; Package-mm: 2012; Mount Type: SMT; Publisher: Hefest; Manufacturer Alternate: *; Part Number Alternate: *; Supplier 1: Comet; Supplier Part Number 1: C0805 1.0uF 50V X7R SAMSUNG; RoHS: Y; Technology: Ceramic  MLCC; Package: 0805; VDC: 16V; TempCo: X7R; Tolerance %: ±10%; VAC: *; ESR Ohm: *; ComponentLink1Description: Datasheet Link; ComponentLink1URL: https://store.comet.bg/download-file.php?id=11; Temperature Range: -55°C ~ +125°C; Price: 0.120; Published: 07.04.2019; Value: 1u
footprint C 0805(2012)x1.25
simulation model Capacitor (Model Description)
signal-integrity model Capacitor (Model Description)
pins: 1, 2
1 alternate drawing of the same symbol

## C 0805    16V X7R - 2.2u
designator C?, comment 2.2u
SMD 0805     16V X7R 10%; Part Number: CL21B225KOFNNNG; Manufacturer: Samsung; TYPE: Capacitors; Package-mm: 2012; Mount Type: SMT; Publisher: Hefest; Manufacturer Alternate: *; Part Number Alternate: *; Published: 07.04.2019; Supplier 1: Comet; Supplier Part Number 1: C0805 2.2uF 16V X7R SAMSUNG; RoHS: Y; Technology: Ceramic  MLCC; Package: 0805; VDC: 16V; TempCo: X7R; Tolerance %: ±10%; VAC: *; ESR Ohm: *; ComponentLink1Description: Datasheet Link; ComponentLink1URL: https://store.comet.bg/download-file.php?id=11; Temperature Range: -55°C ~ +125°C; Price: 0.093; Value: 2.2u
footprint C 0805(2012)x1.25
simulation model Capacitor (Model Description)
signal-integrity model Capacitor (Model Description)
pins: 1, 2
1 alternate drawing of the same symbol

## C 0805    16V Y5V - 0*
designator C?
SMD 0805     16V Y5V -82/+22%; Manufacturer: Samsung; TYPE: Capacitors; Package-mm: 2012; Part Number: *; Mount Type: SMT; Publisher: Hefest; Manufacturer Alternate: *; Part Number Alternate: *; Published: 07.04.2019; Supplier 1: Comet; Supplier Part Number 1: *; RoHS: Y; Technology: Ceramic  MLCC; Package: 0805; VDC: 16V; TempCo: Y5V; Tolerance %: -82/+22%; VAC: *; ESR Ohm: *; ComponentLink1Description: Datasheet Link; ComponentLink1URL: https://store.comet.bg/download-file.php?id=11; Temperature Range: -30°C ~ +85°C; Price: *; Value: *
footprint C 0805(2012)x0.65
simulation model Capacitor (Model Description)
signal-integrity model Capacitor (Model Description)
pins: 1, 2
1 alternate drawing of the same symbol

## C 0805    16V Y5V - 2.2u
designator C?, comment 2.2u
SMD 0805     16V Y5V -82/+22%; Part Number: CL21F225ZOFNNNG; Manufacturer: Samsung; TYPE: Capacitors; Package-mm: 2012; Mount Type: SMT; Publisher: Hefest; Manufacturer Alternate: *; Part Number Alternate: *; Published: 07.04.2019; Supplier 1: Comet; Supplier Part Number 1: C0805 2.2uF 16V Y5V SAMSUNG; RoHS: Y; Technology: Ceramic  MLCC; Package: 0805; VDC: 16V; TempCo: Y5V; Tolerance %: -82/+22%; VAC: *; ESR Ohm: *; ComponentLink1Description: Datasheet Link; ComponentLink1URL: https://store.comet.bg/download-file.php?id=11; Temperature Range: -30°C ~ +85°C; Price: 0.064; Value: 2.2u
footprint C 0805(2012)x1.25
simulation model Capacitor (Model Description)
signal-integrity model Capacitor (Model Description)
pins: 1, 2
1 alternate drawing of the same symbol

## C 0805    25V X5R - 22u
designator C?, comment 22u
SMD 0805     25V X5R 10%; Part Number: GRM21BR61E226ME44L; Manufacturer: Samsung; Tolerance %: ±20%; TYPE: Capacitors; Package-mm: 2012; Mount Type: SMT; Publisher: Hefest; Manufacturer Alternate: *; Part Number Alternate: *; Published: 07.04.2019; Supplier 1: Muser; Supplier Part Number 1: 81-GRM21BR61E226ME4L; RoHS: Y; Technology: Ceramic  MLCC; Package: 0805; VDC: 25V; TempCo: X5R; VAC: *; ESR Ohm: *; ComponentLink1Description: Datasheet Link; ComponentLink1URL: https://www.mouser.bg/datasheet/2/281/murata_03052018_GRM_Series_1-1310166.pdf; Temperature Range: -55°C ~ +85°C; Price: 1; Value: 22u
footprint C 0805(2012)x0.65
simulation model Capacitor (Model Description)
signal-integrity model Capacitor (Model Description)
pins: 1, 2
1 alternate drawing of the same symbol

## C 0805    50V C0G - 0*
designator C?
SMD 0805     50V C0G   5%; Manufacturer: Samsung; TYPE: Capacitors; Package-mm: 2012; Part Number: *; Mount Type: SMT; Publisher: Hefest; Manufacturer Alternate: *; Part Number Alternate: *; Published: 07.04.2019; Supplier 1: Comet; Supplier Part Number 1: *; RoHS: Y; Technology: Ceramic  MLCC; Package: 0805; VDC: 50V; TempCo: C0G; VAC: *; ESR Ohm: *; ComponentLink1Description: Datasheet Link; ComponentLink1URL: https://store.comet.bg/download-file.php?id=11; Temperature Range: -55°C ~ +125°C; Price: *; Tolerance %: ±5%; Value: *
footprint C 0805(2012)x0.65
simulation model Capacitor (Model Description)
signal-integrity model Capacitor (Model Description)
pins: 1, 2
1 alternate drawing of the same symbol

## C 0805    50V C0G - 1n
designator C?, comment 1n
SMD 0805     50V C0G   5%; Part Number: CL21C102JBNC; Manufacturer: Samsung; TYPE: Capacitors; Package-mm: 2012; Mount Type: SMT; Publisher: Hefest; Manufacturer Alternate: *; Part Number Alternate: *; Published: 07.04.2019; Supplier 1: Comet; Supplier Part Number 1: C0805 1.0nF 50V C0G SAMSUNG; RoHS: Y; Technology: Ceramic  MLCC; Package: 0805; VDC: 50V; TempCo: C0G; Tolerance %: ±5%; VAC: *; ESR Ohm: *; ComponentLink1Description: Datasheet Link; ComponentLink1URL: https://store.comet.bg/download-file.php?id=11; Temperature Range: -55°C ~ +125°C; Price: 0.058; Value: 1n
footprint C 0805(2012)x0.65
simulation model Capacitor (Model Description)
signal-integrity model Capacitor (Model Description)
pins: 1, 2
1 alternate drawing of the same symbol

## C 0805    50V C0G - 2.2n
designator C?, comment 2.2n
SMD 0805     50V C0G   5%; Part Number: CL21B222JBNC; Manufacturer: Samsung; TYPE: Capacitors; Package-mm: 2012; Mount Type: SMT; Publisher: Hefest; Manufacturer Alternate: *; Part Number Alternate: *; Published: 07.04.2019; Supplier 1: Comet; Supplier Part Number 1: C0805 2.2nF 50V C0G SAMSUNG; RoHS: Y; Technology: Ceramic  MLCC; Package: 0805; VDC: 50V; TempCo: C0G; Tolerance %: ±5%; VAC: *; ESR Ohm: *; ComponentLink1Description: Datasheet Link; ComponentLink1URL: https://store.comet.bg/download-file.php?id=11; Temperature Range: -55°C ~ +125°C; Price: 0.600; Value: 2.2n
footprint C 0805(2012)x1.25
simulation model Capacitor (Model Description)
signal-integrity model Capacitor (Model Description)
pins: 1, 2
1 alternate drawing of the same symbol

## C 0805    50V X5R - 0*
designator C?
SMD 0805     50V X5R 10%; Manufacturer: Samsung; TYPE: Capacitors; Tolerance %: ±20%; Package-mm: 2012; Part Number: *; Mount Type: SMT; Publisher: Hefest; Manufacturer Alternate: *; Part Number Alternate: *; Published: 07.04.2019; Supplier 1: Comet; Supplier Part Number 1: *; RoHS: Y; Technology: Ceramic  MLCC; Package: 0805; VDC: 50V; TempCo: X5R; VAC: *; ESR Ohm: *; ComponentLink1Description: Datasheet Link; ComponentLink1URL: https://store.comet.bg/download-file.php?id=11; Temperature Range: -55°C ~ +85°C; Price: *; Value: *
footprint C 0805(2012)x0.65
simulation model Capacitor (Model Description)
signal-integrity model Capacitor (Model Description)
pins: 1, 2
1 alternate drawing of the same symbol

## C 0805    50V X5R - 0*_1
designator C?, comment 10u
SMD 0805     50V X5R 10%; Part Number: GRM21BR6YA106ME43L; Manufacturer: Samsung; TYPE: Capacitors; VDC: 35V; Tolerance %: ±20%; Package-mm: 2012; Mount Type: SMT; Publisher: Hefest; Manufacturer Alternate: *; Part Number Alternate: *; Published: 07.04.2019; Supplier 1: Mouser; Supplier Part Number 1: 81-GRM21BR6YA106ME3L; RoHS: Y; Technology: Ceramic  MLCC; Package: 0805; TempCo: X5R; VAC: *; ESR Ohm: *; ComponentLink1Description: Datasheet Link; ComponentLink1URL: https://www.mouser.bg/datasheet/2/281/murata_03052018_GRM_Series_1-1310166.pdf; Temperature Range: -55°C ~ +85°C; Price: 0.92; Value: 10u
footprint C 0805(2012)x0.65
simulation model Capacitor (Model Description)
signal-integrity model Capacitor (Model Description)
pins: 1, 2
1 alternate drawing of the same symbol